# Altium integrated library Linear Technology Operational Amplifiers (LT2000-LT6000).IntLib: 1710 symbols (part 3 of 75)
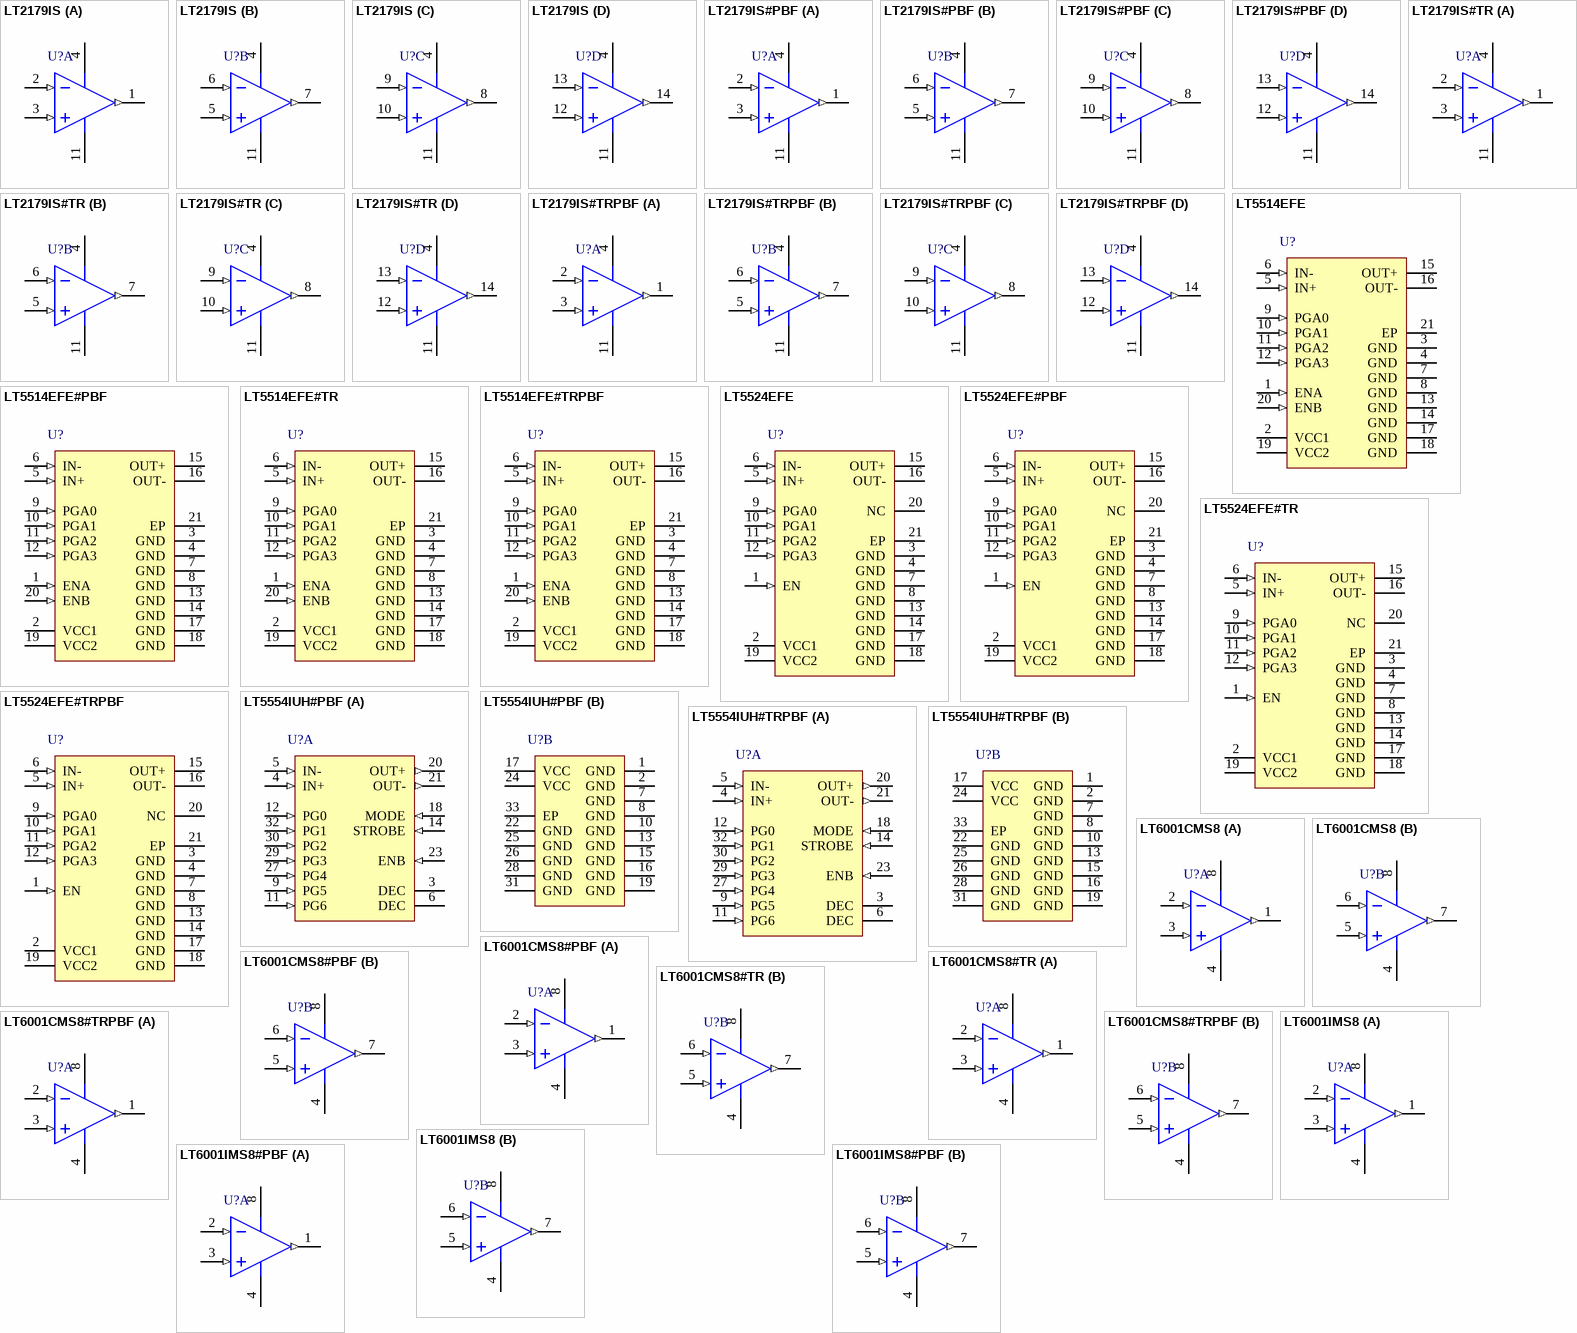
[diagram p82: symbols LT2179IS to LT6001IMS8#PBF]

## LT5514EFE#PBF
designator U?
Single Channel, Ultralow Distortion IF Amplifier / ADC Driver with Digitally Controlled Gain, 850 MHz Typical GBW, 4.75 to 5.25 V, 20-Pin SOP (FE-20), Extended, Pb-Free; Linear Technology Part Number: LT5514; Manufacturer: Linear Technology; PartNumber: LT5514EFE#PBF; Channels (#): 1; GBW (MHz) Typical: 850; Is (mA) Typical: 148; Vs Max (V): 5.25; Vs Min (V): 4.75; PackageVersion: Rev I; PackageReference: LT-FE-20-EPV-CB; PackageDescription: 20-Lead Plastic TSSOP, Body 6.5 x 4.4 mm, Pitch 0.65 mm; Supplier 1: Digi-Key; Supplier Part Number 1: LT5514EFE#PBF-ND; Supplier 2: Newark; Supplier Part Number 2: 57M8764; RoHS: Pb-Free; Type: DIFF; Mounting Technology: Surface Mount; ComponentLink1Description: Manufacturer URL; ComponentLink1URL: http://www.linear.com/; ComponentLink2Description: Datasheet; ComponentLink2URL: http://cds.linear.com/docs/en/datasheet/5514f.pdf; ComponentLink3Description: Package Specification; ComponentLink3URL: http://cds.linear.com/docs/en/packaging/05081663_I_FE20%28CB%29.pdf
footprint LT-FE-20-EPV-CB_N (SOP, 20-Leads, Body 6.5x4.4mm, Pitch 0.65mm, Thermal Pad 3.86x2.74mm, IPC Medium Density)
footprint LT-FE-20-EPV-CB_L (SOP, 20-Leads, Body 6.5x4.4mm, Pitch 0.65mm, Thermal Pad 3.86x2.74mm, IPC High Density)
footprint LT-FE-20-EPV-CB_M (SOP, 20-Leads, Body 6.5x4.4mm, Pitch 0.65mm, Thermal Pad 3.86x2.74mm, IPC Low Density)
pins: 1 ENA (in) "Enable Pin for Amplifier A. When the input voltage is higher than 3V, amplifier A is turned on. When the input voltage is less than or equal to 0.6V, amplifier A is turned off. This pin is internally pulled to ground if not (See Datasheet)", 2 VCC1 (power) "Power Supply. This pin is internally connected to VCC2 (Pin 19). Decoupling capacitors (1000pF and 0.1mF for example) may be required in some applications.", 3 GND (power) "Ground.", 4 GND (power) "Ground.", 5 IN+ (in) "Positive Signal Input Pin with Internal DC Bias.", 6 IN- (in) "Negative Signal Input Pin with Internal DC Bias.", 7 GND (power) "Ground.", 8 GND (power) "Ground.", 9 PGA0 (in) "Amplifier PGA Control Input Pin for the 1.5dB Attenuation Step (see Programmable Gain table). Input is high when input voltage is greater than 3V. Input is low when input voltage is less than or equal to 0.6V. This pin is (See Datasheet)", 10 PGA1 (in) "Amplifier PGA Control Input Pin for the 3dB Attenuation Step (see Programmable Gain table). Input is high when input voltage is greater than 3V. Input is low when input voltage is less than or equal to 0.6V. This pin is (See Datasheet)", 11 PGA2 (in) "Amplifier PGA Control Input Pin for the 6dB Attenuation Step (see Programmable Gain table).Input is high when input voltage is greater than 3V. Input is low when input voltage is less than or equal to 0.6V. This pin is (See Datasheet)", 12 PGA3 (in) "Amplifier PGA Control Input Pin for 12dB Attenuation Step (see Programmable Gain table). Input is high when input voltage is greater than 3V. Input is low when input voltage is less than or equal to 0.6V. This pin is (See Datasheet)", 13 GND (power) "Ground.", 14 GND (power) "Ground.", 15 OUT+ (hiz) "Positive Amplifier Output. A transformer with center tap tied to VCC or a choke inductor is recommended to source the DC quiescent current.", 16 OUT- (hiz) "Negative Amplifier Output. A transformer with center tap tied to VCC or a choke inductor is recommended to source the DC quiescent current.", 17 GND (power) "Ground.", 18 GND (power) "Ground.", 19 VCC2 (power) "Power Supply. This pin is internally connected to VCC1 (Pin 2).", 20 ENB (in) "Enable Pin for Amplifier B. When the input voltage is higher than 3V, amplifier B is turned on. When the input voltage is less than or equal to 0.6V, amplifier B is turned off. This pin is internally pulled to ground if not (See Datasheet)", 21 EP (power) "Ground. This pin must be soldered to the printed circuit board ground plane for good heat transfer."

## LT5514EFE#TR
designator U?
Single Channel, Ultralow Distortion IF Amplifier / ADC Driver with Digitally Controlled Gain, 850 MHz Typical GBW, 4.75 to 5.25 V, 20-Pin SOP (FE-20), Extended, Reel; Linear Technology Part Number: LT5514; Manufacturer: Linear Technology; PartNumber: LT5514EFE#TR; Channels (#): 1; GBW (MHz) Typical: 850; Is (mA) Typical: 148; Vs Max (V): 5.25; Vs Min (V): 4.75; PackageVersion: Rev I; PackageReference: LT-FE-20-EPV-CB; PackageDescription: 20-Lead Plastic TSSOP, Body 6.5 x 4.4 mm, Pitch 0.65 mm; Supplier 1: Digi-Key; Supplier Part Number 1: LT5514EFE#TR-ND; Packing: Reel; Type: DIFF; Mounting Technology: Surface Mount; ComponentLink1Description: Manufacturer URL; ComponentLink1URL: http://www.linear.com/; ComponentLink2Description: Datasheet; ComponentLink2URL: http://cds.linear.com/docs/en/datasheet/5514f.pdf; ComponentLink3Description: Package Specification; ComponentLink3URL: http://cds.linear.com/docs/en/packaging/05081663_I_FE20%28CB%29.pdf
footprint LT-FE-20-EPV-CB_N (SOP, 20-Leads, Body 6.5x4.4mm, Pitch 0.65mm, Thermal Pad 3.86x2.74mm, IPC Medium Density)
footprint LT-FE-20-EPV-CB_L (SOP, 20-Leads, Body 6.5x4.4mm, Pitch 0.65mm, Thermal Pad 3.86x2.74mm, IPC High Density)
footprint LT-FE-20-EPV-CB_M (SOP, 20-Leads, Body 6.5x4.4mm, Pitch 0.65mm, Thermal Pad 3.86x2.74mm, IPC Low Density)
pins: 1 ENA (in) "Enable Pin for Amplifier A. When the input voltage is higher than 3V, amplifier A is turned on. When the input voltage is less than or equal to 0.6V, amplifier A is turned off. This pin is internally pulled to ground if not (See Datasheet)", 2 VCC1 (power) "Power Supply. This pin is internally connected to VCC2 (Pin 19). Decoupling capacitors (1000pF and 0.1mF for example) may be required in some applications.", 3 GND (power) "Ground.", 4 GND (power) "Ground.", 5 IN+ (in) "Positive Signal Input Pin with Internal DC Bias.", 6 IN- (in) "Negative Signal Input Pin with Internal DC Bias.", 7 GND (power) "Ground.", 8 GND (power) "Ground.", 9 PGA0 (in) "Amplifier PGA Control Input Pin for the 1.5dB Attenuation Step (see Programmable Gain table). Input is high when input voltage is greater than 3V. Input is low when input voltage is less than or equal to 0.6V. This pin is (See Datasheet)", 10 PGA1 (in) "Amplifier PGA Control Input Pin for the 3dB Attenuation Step (see Programmable Gain table). Input is high when input voltage is greater than 3V. Input is low when input voltage is less than or equal to 0.6V. This pin is (See Datasheet)", 11 PGA2 (in) "Amplifier PGA Control Input Pin for the 6dB Attenuation Step (see Programmable Gain table).Input is high when input voltage is greater than 3V. Input is low when input voltage is less than or equal to 0.6V. This pin is (See Datasheet)", 12 PGA3 (in) "Amplifier PGA Control Input Pin for 12dB Attenuation Step (see Programmable Gain table). Input is high when input voltage is greater than 3V. Input is low when input voltage is less than or equal to 0.6V. This pin is (See Datasheet)", 13 GND (power) "Ground.", 14 GND (power) "Ground.", 15 OUT+ (hiz) "Positive Amplifier Output. A transformer with center tap tied to VCC or a choke inductor is recommended to source the DC quiescent current.", 16 OUT- (hiz) "Negative Amplifier Output. A transformer with center tap tied to VCC or a choke inductor is recommended to source the DC quiescent current.", 17 GND (power) "Ground.", 18 GND (power) "Ground.", 19 VCC2 (power) "Power Supply. This pin is internally connected to VCC1 (Pin 2).", 20 ENB (in) "Enable Pin for Amplifier B. When the input voltage is higher than 3V, amplifier B is turned on. When the input voltage is less than or equal to 0.6V, amplifier B is turned off. This pin is internally pulled to ground if not (See Datasheet)", 21 EP (power) "Ground. This pin must be soldered to the printed circuit board ground plane for good heat transfer."

## LT5514EFE#TRPBF
designator U?
Single Channel, Ultralow Distortion IF Amplifier / ADC Driver with Digitally Controlled Gain, 850 MHz Typical GBW, 4.75 to 5.25 V, 20-Pin SOP (FE-20), Extended, Pb-Free, Reel; Linear Technology Part Number: LT5514; Manufacturer: Linear Technology; PartNumber: LT5514EFE#TRPBF; Channels (#): 1; GBW (MHz) Typical: 850; Is (mA) Typical: 148; Vs Max (V): 5.25; Vs Min (V): 4.75; PackageVersion: Rev I; PackageReference: LT-FE-20-EPV-CB; PackageDescription: 20-Lead Plastic TSSOP, Body 6.5 x 4.4 mm, Pitch 0.65 mm; Supplier 1: Digi-Key; Supplier Part Number 1: LT5514EFE#TRPBF-ND; Packing: Reel; RoHS: Pb-Free; Type: DIFF; Mounting Technology: Surface Mount; ComponentLink1Description: Manufacturer URL; ComponentLink1URL: http://www.linear.com/; ComponentLink2Description: Datasheet; ComponentLink2URL: http://cds.linear.com/docs/en/datasheet/5514f.pdf; ComponentLink3Description: Package Specification; ComponentLink3URL: http://cds.linear.com/docs/en/packaging/05081663_I_FE20%28CB%29.pdf
footprint LT-FE-20-EPV-CB_N (SOP, 20-Leads, Body 6.5x4.4mm, Pitch 0.65mm, Thermal Pad 3.86x2.74mm, IPC Medium Density)
footprint LT-FE-20-EPV-CB_L (SOP, 20-Leads, Body 6.5x4.4mm, Pitch 0.65mm, Thermal Pad 3.86x2.74mm, IPC High Density)
footprint LT-FE-20-EPV-CB_M (SOP, 20-Leads, Body 6.5x4.4mm, Pitch 0.65mm, Thermal Pad 3.86x2.74mm, IPC Low Density)
pins: 1 ENA (in) "Enable Pin for Amplifier A. When the input voltage is higher than 3V, amplifier A is turned on. When the input voltage is less than or equal to 0.6V, amplifier A is turned off. This pin is internally pulled to ground if not (See Datasheet)", 2 VCC1 (power) "Power Supply. This pin is internally connected to VCC2 (Pin 19). Decoupling capacitors (1000pF and 0.1mF for example) may be required in some applications.", 3 GND (power) "Ground.", 4 GND (power) "Ground.", 5 IN+ (in) "Positive Signal Input Pin with Internal DC Bias.", 6 IN- (in) "Negative Signal Input Pin with Internal DC Bias.", 7 GND (power) "Ground.", 8 GND (power) "Ground.", 9 PGA0 (in) "Amplifier PGA Control Input Pin for the 1.5dB Attenuation Step (see Programmable Gain table). Input is high when input voltage is greater than 3V. Input is low when input voltage is less than or equal to 0.6V. This pin is (See Datasheet)", 10 PGA1 (in) "Amplifier PGA Control Input Pin for the 3dB Attenuation Step (see Programmable Gain table). Input is high when input voltage is greater than 3V. Input is low when input voltage is less than or equal to 0.6V. This pin is (See Datasheet)", 11 PGA2 (in) "Amplifier PGA Control Input Pin for the 6dB Attenuation Step (see Programmable Gain table).Input is high when input voltage is greater than 3V. Input is low when input voltage is less than or equal to 0.6V. This pin is (See Datasheet)", 12 PGA3 (in) "Amplifier PGA Control Input Pin for 12dB Attenuation Step (see Programmable Gain table). Input is high when input voltage is greater than 3V. Input is low when input voltage is less than or equal to 0.6V. This pin is (See Datasheet)", 13 GND (power) "Ground.", 14 GND (power) "Ground.", 15 OUT+ (hiz) "Positive Amplifier Output. A transformer with center tap tied to VCC or a choke inductor is recommended to source the DC quiescent current.", 16 OUT- (hiz) "Negative Amplifier Output. A transformer with center tap tied to VCC or a choke inductor is recommended to source the DC quiescent current.", 17 GND (power) "Ground.", 18 GND (power) "Ground.", 19 VCC2 (power) "Power Supply. This pin is internally connected to VCC1 (Pin 2).", 20 ENB (in) "Enable Pin for Amplifier B. When the input voltage is higher than 3V, amplifier B is turned on. When the input voltage is less than or equal to 0.6V, amplifier B is turned off. This pin is internally pulled to ground if not (See Datasheet)", 21 EP (power) "Ground. This pin must be soldered to the printed circuit board ground plane for good heat transfer."

## LT5524EFE
designator U?
Single Channel, Low Distortion IF Amplifier / ADC Driver with Digitally Controlled Gain, 540 MHz Typical GBW, 4.75 to 5.25 V, 20-Pin SOP (FE-20), Extended; Linear Technology Part Number: LT5524; Manufacturer: Linear Technology; PartNumber: LT5524EFE; Channels (#): 1; GBW (MHz) Typical: 540; Is (mA) Typical: 75; Vs Max (V): 5.25; Vs Min (V): 4.75; PackageVersion: Rev I; PackageReference: LT-FE-20-EPV-CB; PackageDescription: 20-Lead Plastic TSSOP, Body 6.5 x 4.4 mm, Pitch 0.65 mm; Type: DIFF; Mounting Technology: Surface Mount; ComponentLink1Description: Manufacturer URL; ComponentLink1URL: http://www.linear.com/; ComponentLink2Description: Datasheet; ComponentLink2URL: http://cds.linear.com/docs/en/datasheet/5524f.pdf; ComponentLink3Description: Package Specification; ComponentLink3URL: http://cds.linear.com/docs/en/packaging/05081663_I_FE20%28CB%29.pdf
footprint LT-FE-20-EPV-CB_N (SOP, 20-Leads, Body 6.5x4.4mm, Pitch 0.65mm, Thermal Pad 3.86x2.74mm, IPC Medium Density)
footprint LT-FE-20-EPV-CB_L (SOP, 20-Leads, Body 6.5x4.4mm, Pitch 0.65mm, Thermal Pad 3.86x2.74mm, IPC High Density)
footprint LT-FE-20-EPV-CB_M (SOP, 20-Leads, Body 6.5x4.4mm, Pitch 0.65mm, Thermal Pad 3.86x2.74mm, IPC Low Density)
pins: 1 EN (in) "Enable Pin for Amplifier. When the input voltage is higher than 3V, the amplifier is turned on. When the input voltage is less than or equal to 0.6V, the amplifier is turned off. This pin is internally pulled to ground if (See Datasheet)", 2 VCC1 (power) "Power Supply. This pin is internally connected to VCC2 (Pin 19). Decoupling capacitors (1000pF and 0.1µF for example) may be required in some applications.", 3 GND (power) "Ground.", 4 GND (power) "Ground.", 5 IN+ (in) "Positive Signal Input Pin with Internal DC Bias.", 6 IN- (in) "Negative Signal Input Pin with Internal DC Bias.", 7 GND (power) "Ground.", 8 GND (power) "Ground.", 9 PGA0 (in) "Amplifier PGA Control Input Pin for the 1.5dB Attenuation Step (see Programmable Gain table). Input is high when the input voltage is greater than 3V. Input is low when the input voltage is less than or equal to 0.6V. This (See Datasheet)", 10 PGA1 (in) "Amplifier PGA Control Input Pin for the 3dB Attenuation Step (see Programmable Gain table). Input is high when the input voltage is greater than 3V. Input is low when the input voltage is less than or equal to 0.6V. This pin (See Datasheet)", 11 PGA2 (in) "Amplifier PGA Control Input Pin for the 6dB Attenuation Step (see Programmable Gain table). Input is high when the input voltage is greater than 3V. Input is low when the input voltage is less than or equal to 0.6V. This pin (See Datasheet)", 12 PGA3 (in) "Amplifier PGA Control Input Pin for the 12dB Attenuation Step (see Programmable Gain table). Input is high when the input voltage is greater than 3V. Input is low when the input voltage is less than or equal to 0.6V. This (See Datasheet)", 13 GND (power) "Ground.", 14 GND (power) "Ground.", 15 OUT+ (hiz) "Positive Amplifier Output. A transformer with center tap tied to VCC or a choke inductor is recommended to source the DC quiescent current.", 16 OUT- (hiz) "Negative Amplifier Output. A transformer with center tap tied to VCC or a choke inductor is recommended to source the DC quiescent current.", 17 GND (power) "Ground.", 18 GND (power) "Ground.", 19 VCC2 (power) "Power Supply. This pin is internally connected to VCC1 (Pin 2).", 20 NC "Not Connected.", 21 EP (power) "Ground. This pin must be soldered to the printed circuit board ground plane for good heat transfer."

## LT5524EFE#PBF
designator U?
Single Channel, Low Distortion IF Amplifier / ADC Driver with Digitally Controlled Gain, 540 MHz Typical GBW, 4.75 to 5.25 V, 20-Pin SOP (FE-20), Extended, Pb-Free; Linear Technology Part Number: LT5524; Manufacturer: Linear Technology; PartNumber: LT5524EFE#PBF; Channels (#): 1; GBW (MHz) Typical: 540; Is (mA) Typical: 75; Vs Max (V): 5.25; Vs Min (V): 4.75; PackageVersion: Rev I; PackageReference: LT-FE-20-EPV-CB; PackageDescription: 20-Lead Plastic TSSOP, Body 6.5 x 4.4 mm, Pitch 0.65 mm; Supplier 1: Digi-Key; Supplier Part Number 1: LT5524EFE#PBF-ND; Supplier 2: Farnell; Supplier Part Number 2: 1273469; Supplier 3: Newark; Supplier Part Number 3: 57M8800; RoHS: Pb-Free; Type: DIFF; Mounting Technology: Surface Mount; ComponentLink1Description: Manufacturer URL; ComponentLink1URL: http://www.linear.com/; ComponentLink2Description: Datasheet; ComponentLink2URL: http://cds.linear.com/docs/en/datasheet/5524f.pdf; ComponentLink3Description: Package Specification; ComponentLink3URL: http://cds.linear.com/docs/en/packaging/05081663_I_FE20%28CB%29.pdf
footprint LT-FE-20-EPV-CB_N (SOP, 20-Leads, Body 6.5x4.4mm, Pitch 0.65mm, Thermal Pad 3.86x2.74mm, IPC Medium Density)
footprint LT-FE-20-EPV-CB_L (SOP, 20-Leads, Body 6.5x4.4mm, Pitch 0.65mm, Thermal Pad 3.86x2.74mm, IPC High Density)
footprint LT-FE-20-EPV-CB_M (SOP, 20-Leads, Body 6.5x4.4mm, Pitch 0.65mm, Thermal Pad 3.86x2.74mm, IPC Low Density)
pins: 1 EN (in) "Enable Pin for Amplifier. When the input voltage is higher than 3V, the amplifier is turned on. When the input voltage is less than or equal to 0.6V, the amplifier is turned off. This pin is internally pulled to ground if (See Datasheet)", 2 VCC1 (power) "Power Supply. This pin is internally connected to VCC2 (Pin 19). Decoupling capacitors (1000pF and 0.1µF for example) may be required in some applications.", 3 GND (power) "Ground.", 4 GND (power) "Ground.", 5 IN+ (in) "Positive Signal Input Pin with Internal DC Bias.", 6 IN- (in) "Negative Signal Input Pin with Internal DC Bias.", 7 GND (power) "Ground.", 8 GND (power) "Ground.", 9 PGA0 (in) "Amplifier PGA Control Input Pin for the 1.5dB Attenuation Step (see Programmable Gain table). Input is high when the input voltage is greater than 3V. Input is low when the input voltage is less than or equal to 0.6V. This (See Datasheet)", 10 PGA1 (in) "Amplifier PGA Control Input Pin for the 3dB Attenuation Step (see Programmable Gain table). Input is high when the input voltage is greater than 3V. Input is low when the input voltage is less than or equal to 0.6V. This pin (See Datasheet)", 11 PGA2 (in) "Amplifier PGA Control Input Pin for the 6dB Attenuation Step (see Programmable Gain table). Input is high when the input voltage is greater than 3V. Input is low when the input voltage is less than or equal to 0.6V. This pin (See Datasheet)", 12 PGA3 (in) "Amplifier PGA Control Input Pin for the 12dB Attenuation Step (see Programmable Gain table). Input is high when the input voltage is greater than 3V. Input is low when the input voltage is less than or equal to 0.6V. This (See Datasheet)", 13 GND (power) "Ground.", 14 GND (power) "Ground.", 15 OUT+ (hiz) "Positive Amplifier Output. A transformer with center tap tied to VCC or a choke inductor is recommended to source the DC quiescent current.", 16 OUT- (hiz) "Negative Amplifier Output. A transformer with center tap tied to VCC or a choke inductor is recommended to source the DC quiescent current.", 17 GND (power) "Ground.", 18 GND (power) "Ground.", 19 VCC2 (power) "Power Supply. This pin is internally connected to VCC1 (Pin 2).", 20 NC "Not Connected.", 21 EP (power) "Ground. This pin must be soldered to the printed circuit board ground plane for good heat transfer."

## LT5524EFE#TR
designator U?
Single Channel, Low Distortion IF Amplifier / ADC Driver with Digitally Controlled Gain, 540 MHz Typical GBW, 4.75 to 5.25 V, 20-Pin SOP (FE-20), Extended, Reel; Linear Technology Part Number: LT5524; Manufacturer: Linear Technology; PartNumber: LT5524EFE#TR; Channels (#): 1; GBW (MHz) Typical: 540; Is (mA) Typical: 75; Vs Max (V): 5.25; Vs Min (V): 4.75; PackageVersion: Rev I; PackageReference: LT-FE-20-EPV-CB; PackageDescription: 20-Lead Plastic TSSOP, Body 6.5 x 4.4 mm, Pitch 0.65 mm; Packing: Reel; Type: DIFF; Mounting Technology: Surface Mount; ComponentLink1Description: Manufacturer URL; ComponentLink1URL: http://www.linear.com/; ComponentLink2Description: Datasheet; ComponentLink2URL: http://cds.linear.com/docs/en/datasheet/5524f.pdf; ComponentLink3Description: Package Specification; ComponentLink3URL: http://cds.linear.com/docs/en/packaging/05081663_I_FE20%28CB%29.pdf
footprint LT-FE-20-EPV-CB_N (SOP, 20-Leads, Body 6.5x4.4mm, Pitch 0.65mm, Thermal Pad 3.86x2.74mm, IPC Medium Density)
footprint LT-FE-20-EPV-CB_L (SOP, 20-Leads, Body 6.5x4.4mm, Pitch 0.65mm, Thermal Pad 3.86x2.74mm, IPC High Density)
footprint LT-FE-20-EPV-CB_M (SOP, 20-Leads, Body 6.5x4.4mm, Pitch 0.65mm, Thermal Pad 3.86x2.74mm, IPC Low Density)
pins: 1 EN (in) "Enable Pin for Amplifier. When the input voltage is higher than 3V, the amplifier is turned on. When the input voltage is less than or equal to 0.6V, the amplifier is turned off. This pin is internally pulled to ground if (See Datasheet)", 2 VCC1 (power) "Power Supply. This pin is internally connected to VCC2 (Pin 19). Decoupling capacitors (1000pF and 0.1µF for example) may be required in some applications.", 3 GND (power) "Ground.", 4 GND (power) "Ground.", 5 IN+ (in) "Positive Signal Input Pin with Internal DC Bias.", 6 IN- (in) "Negative Signal Input Pin with Internal DC Bias.", 7 GND (power) "Ground.", 8 GND (power) "Ground.", 9 PGA0 (in) "Amplifier PGA Control Input Pin for the 1.5dB Attenuation Step (see Programmable Gain table). Input is high when the input voltage is greater than 3V. Input is low when the input voltage is less than or equal to 0.6V. This (See Datasheet)", 10 PGA1 (in) "Amplifier PGA Control Input Pin for the 3dB Attenuation Step (see Programmable Gain table). Input is high when the input voltage is greater than 3V. Input is low when the input voltage is less than or equal to 0.6V. This pin (See Datasheet)", 11 PGA2 (in) "Amplifier PGA Control Input Pin for the 6dB Attenuation Step (see Programmable Gain table). Input is high when the input voltage is greater than 3V. Input is low when the input voltage is less than or equal to 0.6V. This pin (See Datasheet)", 12 PGA3 (in) "Amplifier PGA Control Input Pin for the 12dB Attenuation Step (see Programmable Gain table). Input is high when the input voltage is greater than 3V. Input is low when the input voltage is less than or equal to 0.6V. This (See Datasheet)", 13 GND (power) "Ground.", 14 GND (power) "Ground.", 15 OUT+ (hiz) "Positive Amplifier Output. A transformer with center tap tied to VCC or a choke inductor is recommended to source the DC quiescent current.", 16 OUT- (hiz) "Negative Amplifier Output. A transformer with center tap tied to VCC or a choke inductor is recommended to source the DC quiescent current.", 17 GND (power) "Ground.", 18 GND (power) "Ground.", 19 VCC2 (power) "Power Supply. This pin is internally connected to VCC1 (Pin 2).", 20 NC "Not Connected.", 21 EP (power) "Ground. This pin must be soldered to the printed circuit board ground plane for good heat transfer."

## LT5524EFE#TRPBF
designator U?
Single Channel, Low Distortion IF Amplifier / ADC Driver with Digitally Controlled Gain, 540 MHz Typical GBW, 4.75 to 5.25 V, 20-Pin SOP (FE-20), Extended, Pb-Free, Reel; Linear Technology Part Number: LT5524; Manufacturer: Linear Technology; PartNumber: LT5524EFE#TRPBF; Channels (#): 1; GBW (MHz) Typical: 540; Is (mA) Typical: 75; Vs Max (V): 5.25; Vs Min (V): 4.75; PackageVersion: Rev I; PackageReference: LT-FE-20-EPV-CB; PackageDescription: 20-Lead Plastic TSSOP, Body 6.5 x 4.4 mm, Pitch 0.65 mm; Supplier 1: Digi-Key; Supplier Part Number 1: LT5524EFE#TRPBF-ND; Supplier 2: Newark; Supplier Part Number 2: 57M8802; Packing: Reel; RoHS: Pb-Free; Type: DIFF; Mounting Technology: Surface Mount; ComponentLink1Description: Manufacturer URL; ComponentLink1URL: http://www.linear.com/; ComponentLink2Description: Datasheet; ComponentLink2URL: http://cds.linear.com/docs/en/datasheet/5524f.pdf; ComponentLink3Description: Package Specification; ComponentLink3URL: http://cds.linear.com/docs/en/packaging/05081663_I_FE20%28CB%29.pdf
footprint LT-FE-20-EPV-CB_N (SOP, 20-Leads, Body 6.5x4.4mm, Pitch 0.65mm, Thermal Pad 3.86x2.74mm, IPC Medium Density)
footprint LT-FE-20-EPV-CB_L (SOP, 20-Leads, Body 6.5x4.4mm, Pitch 0.65mm, Thermal Pad 3.86x2.74mm, IPC High Density)
footprint LT-FE-20-EPV-CB_M (SOP, 20-Leads, Body 6.5x4.4mm, Pitch 0.65mm, Thermal Pad 3.86x2.74mm, IPC Low Density)
pins: 1 EN (in) "Enable Pin for Amplifier. When the input voltage is higher than 3V, the amplifier is turned on. When the input voltage is less than or equal to 0.6V, the amplifier is turned off. This pin is internally pulled to ground if (See Datasheet)", 2 VCC1 (power) "Power Supply. This pin is internally connected to VCC2 (Pin 19). Decoupling capacitors (1000pF and 0.1µF for example) may be required in some applications.", 3 GND (power) "Ground.", 4 GND (power) "Ground.", 5 IN+ (in) "Positive Signal Input Pin with Internal DC Bias.", 6 IN- (in) "Negative Signal Input Pin with Internal DC Bias.", 7 GND (power) "Ground.", 8 GND (power) "Ground.", 9 PGA0 (in) "Amplifier PGA Control Input Pin for the 1.5dB Attenuation Step (see Programmable Gain table). Input is high when the input voltage is greater than 3V. Input is low when the input voltage is less than or equal to 0.6V. This (See Datasheet)", 10 PGA1 (in) "Amplifier PGA Control Input Pin for the 3dB Attenuation Step (see Programmable Gain table). Input is high when the input voltage is greater than 3V. Input is low when the input voltage is less than or equal to 0.6V. This pin (See Datasheet)", 11 PGA2 (in) "Amplifier PGA Control Input Pin for the 6dB Attenuation Step (see Programmable Gain table). Input is high when the input voltage is greater than 3V. Input is low when the input voltage is less than or equal to 0.6V. This pin (See Datasheet)", 12 PGA3 (in) "Amplifier PGA Control Input Pin for the 12dB Attenuation Step (see Programmable Gain table). Input is high when the input voltage is greater than 3V. Input is low when the input voltage is less than or equal to 0.6V. This (See Datasheet)", 13 GND (power) "Ground.", 14 GND (power) "Ground.", 15 OUT+ (hiz) "Positive Amplifier Output. A transformer with center tap tied to VCC or a choke inductor is recommended to source the DC quiescent current.", 16 OUT- (hiz) "Negative Amplifier Output. A transformer with center tap tied to VCC or a choke inductor is recommended to source the DC quiescent current.", 17 GND (power) "Ground.", 18 GND (power) "Ground.", 19 VCC2 (power) "Power Supply. This pin is internally connected to VCC1 (Pin 2).", 20 NC "Not Connected.", 21 EP (power) "Ground. This pin must be soldered to the printed circuit board ground plane for good heat transfer."

## LT5554IUH#PBF
designator U?
Single Channel, Broadband Ultra Low Distortion 7-Bit Digitally Controlled Variable Gain Amplifier, 1000 MHz Typical GBW, 4.75 to 5.25 V, 32-Pin QFN (UH-32), Industrial, Pb-Free; Linear Technology Part Number: LT5554; Manufacturer: Linear Technology; PartNumber: LT5554IUH#PBF; Channels (#): 1; GBW (MHz) Typical: 1000; Is (mA) Typical: 200; Vs Max (V): 5.25; Vs Min (V): 4.75; PackageVersion: Rev D; PackageReference: LT-UH-32; PackageDescription: 32-Lead Plastic QFN, Body 5 x 5 mm, Pitch 0.5 mm; Supplier 1: Digi-Key; Supplier Part Number 1: LT5554IUH#PBF-ND; Supplier 2: Newark; Supplier Part Number 2: 02P7664; RoHS: Pb-Free; Type: DIFF; Mounting Technology: Surface Mount; Code_JEDEC: MO-220; ComponentLink1Description: Manufacturer URL; ComponentLink1URL: http://www.linear.com/; ComponentLink2Description: Datasheet; ComponentLink2URL: http://cds.linear.com/docs/en/datasheet/5554f.pdf; ComponentLink3Description: Package Specification; ComponentLink3URL: http://cds.linear.com/docs/en/packaging/QFN_32_05-08-1693.pdf
footprint LT-UH-32_N (QFN, 32-Leads, Body 5x5mm, Pitch 0.50mm, Thermal Pad 3.45X3.45mm, IPC Medium Density)
footprint LT-UH-32_L (QFN, 32-Leads, Body 5x5mm, Pitch 0.50mm, Thermal Pad 3.45X3.45mm, IPC High Density)
footprint LT-UH-32_M (QFN, 32-Leads, Body 5x5mm, Pitch 0.50mm, Thermal Pad 3.45X3.45mm, IPC Low Density)
part A pins: 3 DEC "Decoupling Pin for the Internal DC Bias Voltage for the Differential Inputs, IN+ and IN-. It is also connected to the ‘virtual ground’ of the input resistive attenuator. Capacitive de-coupling to ground is recommended in (See Datasheet)", 4 IN+ (in) "Positive Signal Input Pin with Internal DC Bias to 2V.", 5 IN- (in) "Negative Signal Input Pin with Internal DC Bias to 2V.", 6 DEC "Decoupling Pin for the Internal DC Bias Voltage for the Differential Inputs, IN+ and IN-. It is also connected to the ‘virtual ground’ of the input resistive attenuator. Capacitive de-coupling to ground is recommended in (See Datasheet)", 9 PG5 (in) "4dB Step Amplifier Programmable Gain Control Input Pin. Input levels are controlled by MODE pin.", 11 PG6 (in) "8dB Step Amplifier Programmable Gain Control Input Pin. Input levels are controlled by the MODE pin.", 12 PG0 (in) "0.125dB Step Amplifier Programmable Gain Control Input Pin. Input levels are controlled by MODE pin.", 14 STROBE (in) "Strobe Pin for the Programmable Gain Control Inputs (PGx). With STROBE in Low-state, the Amplifi er Gain is not changed by PGx state changes (latch mode). With STROBE in High-state, the Amplifi er Gain is asynchronously set (See Datasheet)", 18 MODE (in) "PGx and STROBE Functionality and Level Control Pin. When MODE is higher than VCC - 0.4V, the PGx and STROBE are DC-coupled. When the MODE pin  is lower than 0.6V, the PGx and STROBE are AC-coupled. When the MODE pin is left (See Datasheet)", 20 OUT+ (out) "Positive Amplifier Output Pin. A transformer with a center tap tied to VCC or a choke inductor is recommended to conduct the DC quiescent current.", 21 OUT- (out) "Negative Amplifier Output Pin. A transformer with a center tap tied to VCC or a choke inductor is recommended to conduct the DC quiescent current.", 23 ENB (in) "Enable Pin for Amplifier. When the ENB input voltage is higher than 3V, the amplifi er is turned on. When the ENB input voltage is less than or equal to 0.6V, the amplifi er is turned off.", 27 PG4 (in) "2dB Step Amplifier Programmable Gain Control Input Pin. Input levels are controlled by MODE pin.", 29 PG3 (in) "1dB Step Amplifier Programmable Gain Control Input Pin. Input levels are controlled by MODE pin.", 30 PG2 (in) "0.5dB Step Amplifier Programmable Gain Control Input Pin. Input levels are controlled by MODE pin.", 32 PG1 (in) "0.25dB Step Amplifier Programmable Gain Control Input Pin. Input levels are controlled by MODE pin."
part B pins: 1 GND (power) "Ground Pin.", 2 GND (power) "Ground Pin.", 7 GND (power) "Ground Pin.", 8 GND (power) "Ground Pin.", 10 GND (power) "Ground Pin.", 13 GND (power) "Ground Pin.", 15 GND (power) "Ground Pin.", 16 GND (power) "Ground Pin.", 17 VCC (power) "Power Supply Pins. These pins are internally connected together.", 19 GND (power) "Ground Pin.", 22 GND (power) "Ground Pin.", 24 VCC (power) "Power Supply Pins. These pins are internally connected together.", 25 GND (power) "Ground Pin.", 26 GND (power) "Ground Pin.", 28 GND (power) "Ground Pin.", 31 GND (power) "Ground Pin.", 33 EP (power) "Ground. This pin must be soldered to the printed circuit board ground plane for good heat dissipation."

## LT5554IUH#TRPBF
designator U?
Single Channel, Broadband Ultra Low Distortion 7-Bit Digitally Controlled Variable Gain Amplifier, 1000 MHz Typical GBW, 4.75 to 5.25 V, 32-Pin QFN (UH-32), Industrial, Pb-Free, Reel; Linear Technology Part Number: LT5554; Manufacturer: Linear Technology; PartNumber: LT5554IUH#TRPBF; Channels (#): 1; GBW (MHz) Typical: 1000; Is (mA) Typical: 200; Vs Max (V): 5.25; Vs Min (V): 4.75; PackageVersion: Rev D; PackageReference: LT-UH-32; PackageDescription: 32-Lead Plastic QFN, Body 5 x 5 mm, Pitch 0.5 mm; Supplier 1: Digi-Key; Supplier Part Number 1: LT5554IUH#TRPBF-ND; Packing: Reel; RoHS: Pb-Free; Type: DIFF; Mounting Technology: Surface Mount; Code_JEDEC: MO-220; ComponentLink1Description: Manufacturer URL; ComponentLink1URL: http://www.linear.com/; ComponentLink2Description: Datasheet; ComponentLink2URL: http://cds.linear.com/docs/en/datasheet/5554f.pdf; ComponentLink3Description: Package Specification; ComponentLink3URL: http://cds.linear.com/docs/en/packaging/QFN_32_05-08-1693.pdf
footprint LT-UH-32_N (QFN, 32-Leads, Body 5x5mm, Pitch 0.50mm, Thermal Pad 3.45X3.45mm, IPC Medium Density)
footprint LT-UH-32_L (QFN, 32-Leads, Body 5x5mm, Pitch 0.50mm, Thermal Pad 3.45X3.45mm, IPC High Density)
footprint LT-UH-32_M (QFN, 32-Leads, Body 5x5mm, Pitch 0.50mm, Thermal Pad 3.45X3.45mm, IPC Low Density)
part A pins: 3 DEC "Decoupling Pin for the Internal DC Bias Voltage for the Differential Inputs, IN+ and IN-. It is also connected to the ‘virtual ground’ of the input resistive attenuator. Capacitive de-coupling to ground is recommended in (See Datasheet)", 4 IN+ (in) "Positive Signal Input Pin with Internal DC Bias to 2V.", 5 IN- (in) "Negative Signal Input Pin with Internal DC Bias to 2V.", 6 DEC "Decoupling Pin for the Internal DC Bias Voltage for the Differential Inputs, IN+ and IN-. It is also connected to the ‘virtual ground’ of the input resistive attenuator. Capacitive de-coupling to ground is recommended in (See Datasheet)", 9 PG5 (in) "4dB Step Amplifier Programmable Gain Control Input Pin. Input levels are controlled by MODE pin.", 11 PG6 (in) "8dB Step Amplifier Programmable Gain Control Input Pin. Input levels are controlled by the MODE pin.", 12 PG0 (in) "0.125dB Step Amplifier Programmable Gain Control Input Pin. Input levels are controlled by MODE pin.", 14 STROBE (in) "Strobe Pin for the Programmable Gain Control Inputs (PGx). With STROBE in Low-state, the Amplifi er Gain is not changed by PGx state changes (latch mode). With STROBE in High-state, the Amplifi er Gain is asynchronously set (See Datasheet)", 18 MODE (in) "PGx and STROBE Functionality and Level Control Pin. When MODE is higher than VCC - 0.4V, the PGx and STROBE are DC-coupled. When the MODE pin  is lower than 0.6V, the PGx and STROBE are AC-coupled. When the MODE pin is left (See Datasheet)", 20 OUT+ (out) "Positive Amplifier Output Pin. A transformer with a center tap tied to VCC or a choke inductor is recommended to conduct the DC quiescent current.", 21 OUT- (out) "Negative Amplifier Output Pin. A transformer with a center tap tied to VCC or a choke inductor is recommended to conduct the DC quiescent current.", 23 ENB (in) "Enable Pin for Amplifier. When the ENB input voltage is higher than 3V, the amplifi er is turned on. When the ENB input voltage is less than or equal to 0.6V, the amplifi er is turned off.", 27 PG4 (in) "2dB Step Amplifier Programmable Gain Control Input Pin. Input levels are controlled by MODE pin.", 29 PG3 (in) "1dB Step Amplifier Programmable Gain Control Input Pin. Input levels are controlled by MODE pin.", 30 PG2 (in) "0.5dB Step Amplifier Programmable Gain Control Input Pin. Input levels are controlled by MODE pin.", 32 PG1 (in) "0.25dB Step Amplifier Programmable Gain Control Input Pin. Input levels are controlled by MODE pin."
part B pins: 1 GND (power) "Ground Pin.", 2 GND (power) "Ground Pin.", 7 GND (power) "Ground Pin.", 8 GND (power) "Ground Pin.", 10 GND (power) "Ground Pin.", 13 GND (power) "Ground Pin.", 15 GND (power) "Ground Pin.", 16 GND (power) "Ground Pin.", 17 VCC (power) "Power Supply Pins. These pins are internally connected together.", 19 GND (power) "Ground Pin.", 22 GND (power) "Ground Pin.", 24 VCC (power) "Power Supply Pins. These pins are internally connected together.", 25 GND (power) "Ground Pin.", 26 GND (power) "Ground Pin.", 28 GND (power) "Ground Pin.", 31 GND (power) "Ground Pin.", 33 EP (power) "Ground. This pin must be soldered to the printed circuit board ground plane for good heat dissipation."

## LT6001CMS8
designator U?
Dual Channel, Precision Operational Amplifier, RRIO, 0.05 MHz Typical GBW, 0.015 V/us Typical SR, 1.8 to 18 V, 8-Pin SOP (MS8-8), Commercial; Linear Technology Part Number: LT6001; Manufacturer: Linear Technology; PartNumber: LT6001CMS8; Channels (#): 2; GBW (MHz) Typical: 0.05; Is (mA) Typical: 0.013; SR (V/us) Typical: 0.015; Vos (mV) Guaranteed: 0.6; Vos (mV) Typical: 0.2; Vs Max (V): 18; Vs Min (V): 1.8; DatasheetVersion: Rev. A; PackageVersion: Rev G; PackageReference: LT-MS8-8; PackageDescription: 8-Lead Plastic Small Outline, Body 3.9 x 4.9 mm, Pitch 1.27 mm; Supplier 1: Newark; Supplier Part Number 1: 57M8860; Type: VFB; Mounting Technology: Surface Mount; ComponentLink1Description: Manufacturer URL; ComponentLink1URL: http://www.linear.com/; ComponentLink2Description: Datasheet; ComponentLink2URL: http://cds.linear.com/docs/en/datasheet/600012fa.pdf; ComponentLink3Description: Package Specification; ComponentLink3URL: http://cds.linear.com/docs/en/packaging/05081610_G_SO8.pdf
footprint LT-MS8-8_N (SOP, 8-Leads, Body 3x3mm, Pitch 0.65mm, IPC Medium Density)
footprint LT-MS8-8_L (SOP, 8-Leads, Body 3x3mm, Pitch 0.65mm, IPC High Density)
footprint LT-MS8-8_M (SOP, 8-Leads, Body 3x3mm, Pitch 0.65mm, IPC Low Density)
pins on every part: 4 V- (power), 8 V+ (power)
part A pins: 1 OUT A (out), 2 IN- A (in), 3 IN+ A (in)
part B pins: 5 IN+ B (in), 6 IN- B (in), 7 OUT B (out)

## LT6001CMS8#PBF
designator U?
Dual Channel, Precision Operational Amplifier, RRIO, 0.05 MHz Typical GBW, 0.015 V/us Typical SR, 1.8 to 18 V, 8-Pin SOP (MS8-8), Commercial, Pb-Free; Linear Technology Part Number: LT6001; Manufacturer: Linear Technology; PartNumber: LT6001CMS8#PBF; Channels (#): 2; GBW (MHz) Typical: 0.05; Is (mA) Typical: 0.013; SR (V/us) Typical: 0.015; Vos (mV) Guaranteed: 0.6; Vos (mV) Typical: 0.2; Vs Max (V): 18; Vs Min (V): 1.8; DatasheetVersion: Rev. A; PackageVersion: Rev G; PackageReference: LT-MS8-8; PackageDescription: 8-Lead Plastic Small Outline, Body 3.9 x 4.9 mm, Pitch 1.27 mm; Supplier 1: Digi-Key; Supplier Part Number 1: LT6001CMS8#PBF-ND; Supplier 2: Newark; Supplier Part Number 2: 57M8861; RoHS: Pb-Free; Type: VFB; Mounting Technology: Surface Mount; ComponentLink1Description: Manufacturer URL; ComponentLink1URL: http://www.linear.com/; ComponentLink2Description: Datasheet; ComponentLink2URL: http://cds.linear.com/docs/en/datasheet/600012fa.pdf; ComponentLink3Description: Package Specification; ComponentLink3URL: http://cds.linear.com/docs/en/packaging/05081610_G_SO8.pdf
footprint LT-MS8-8_N (SOP, 8-Leads, Body 3x3mm, Pitch 0.65mm, IPC Medium Density)
footprint LT-MS8-8_L (SOP, 8-Leads, Body 3x3mm, Pitch 0.65mm, IPC High Density)
footprint LT-MS8-8_M (SOP, 8-Leads, Body 3x3mm, Pitch 0.65mm, IPC Low Density)
pins on every part: 4 V- (power), 8 V+ (power)
part A pins: 1 OUT A (out), 2 IN- A (in), 3 IN+ A (in)
part B pins: 5 IN+ B (in), 6 IN- B (in), 7 OUT B (out)

## LT6001CMS8#TR
designator U?
Dual Channel, Precision Operational Amplifier, RRIO, 0.05 MHz Typical GBW, 0.015 V/us Typical SR, 1.8 to 18 V, 8-Pin SOP (MS8-8), Commercial, Reel; Linear Technology Part Number: LT6001; Manufacturer: Linear Technology; PartNumber: LT6001CMS8#TR; Channels (#): 2; GBW (MHz) Typical: 0.05; Is (mA) Typical: 0.013; SR (V/us) Typical: 0.015; Vos (mV) Guaranteed: 0.6; Vos (mV) Typical: 0.2; Vs Max (V): 18; Vs Min (V): 1.8; DatasheetVersion: Rev. A; PackageVersion: Rev G; PackageReference: LT-MS8-8; PackageDescription: 8-Lead Plastic Small Outline, Body 3.9 x 4.9 mm, Pitch 1.27 mm; Packing: Reel; Type: VFB; Mounting Technology: Surface Mount; ComponentLink1Description: Manufacturer URL; ComponentLink1URL: http://www.linear.com/; ComponentLink2Description: Datasheet; ComponentLink2URL: http://cds.linear.com/docs/en/datasheet/600012fa.pdf; ComponentLink3Description: Package Specification; ComponentLink3URL: http://cds.linear.com/docs/en/packaging/05081610_G_SO8.pdf
footprint LT-MS8-8_N (SOP, 8-Leads, Body 3x3mm, Pitch 0.65mm, IPC Medium Density)
footprint LT-MS8-8_L (SOP, 8-Leads, Body 3x3mm, Pitch 0.65mm, IPC High Density)
footprint LT-MS8-8_M (SOP, 8-Leads, Body 3x3mm, Pitch 0.65mm, IPC Low Density)
pins on every part: 4 V- (power), 8 V+ (power)
part A pins: 1 OUT A (out), 2 IN- A (in), 3 IN+ A (in)
part B pins: 5 IN+ B (in), 6 IN- B (in), 7 OUT B (out)

## LT6001CMS8#TRPBF
designator U?
Dual Channel, Precision Operational Amplifier, RRIO, 0.05 MHz Typical GBW, 0.015 V/us Typical SR, 1.8 to 18 V, 8-Pin SOP (MS8-8), Commercial, Pb-Free, Reel; Linear Technology Part Number: LT6001; Manufacturer: Linear Technology; PartNumber: LT6001CMS8#TRPBF; Channels (#): 2; GBW (MHz) Typical: 0.05; Is (mA) Typical: 0.013; SR (V/us) Typical: 0.015; Vos (mV) Guaranteed: 0.6; Vos (mV) Typical: 0.2; Vs Max (V): 18; Vs Min (V): 1.8; DatasheetVersion: Rev. A; PackageVersion: Rev G; PackageReference: LT-MS8-8; PackageDescription: 8-Lead Plastic Small Outline, Body 3.9 x 4.9 mm, Pitch 1.27 mm; Supplier 1: Digi-Key; Supplier Part Number 1: LT6001CMS8#TRPBF-ND; Supplier 2: Newark; Supplier Part Number 2: 57M8863; Packing: Reel; RoHS: Pb-Free; Type: VFB; Mounting Technology: Surface Mount; ComponentLink1Description: Manufacturer URL; ComponentLink1URL: http://www.linear.com/; ComponentLink2Description: Datasheet; ComponentLink2URL: http://cds.linear.com/docs/en/datasheet/600012fa.pdf; ComponentLink3Description: Package Specification; ComponentLink3URL: http://cds.linear.com/docs/en/packaging/05081610_G_SO8.pdf
footprint LT-MS8-8_N (SOP, 8-Leads, Body 3x3mm, Pitch 0.65mm, IPC Medium Density)
footprint LT-MS8-8_L (SOP, 8-Leads, Body 3x3mm, Pitch 0.65mm, IPC High Density)
footprint LT-MS8-8_M (SOP, 8-Leads, Body 3x3mm, Pitch 0.65mm, IPC Low Density)
pins on every part: 4 V- (power), 8 V+ (power)
part A pins: 1 OUT A (out), 2 IN- A (in), 3 IN+ A (in)
part B pins: 5 IN+ B (in), 6 IN- B (in), 7 OUT B (out)

## LT6001IMS8
designator U?
Dual Channel, Precision Operational Amplifier, RRIO, 0.05 MHz Typical GBW, 0.015 V/us Typical SR, 1.8 to 18 V, 8-Pin SOP (MS8-8), Industrial; Linear Technology Part Number: LT6001; Manufacturer: Linear Technology; PartNumber: LT6001IMS8; Channels (#): 2; GBW (MHz) Typical: 0.05; Is (mA) Typical: 0.013; SR (V/us) Typical: 0.015; Vos (mV) Guaranteed: 0.6; Vos (mV) Typical: 0.2; Vs Max (V): 18; Vs Min (V): 1.8; DatasheetVersion: Rev. A; PackageVersion: Rev G; PackageReference: LT-MS8-8; PackageDescription: 8-Lead Plastic Small Outline, Body 3.9 x 4.9 mm, Pitch 1.27 mm; Type: VFB; Mounting Technology: Surface Mount; ComponentLink1Description: Manufacturer URL; ComponentLink1URL: http://www.linear.com/; ComponentLink2Description: Datasheet; ComponentLink2URL: http://cds.linear.com/docs/en/datasheet/600012fa.pdf; ComponentLink3Description: Package Specification; ComponentLink3URL: http://cds.linear.com/docs/en/packaging/05081610_G_SO8.pdf
footprint LT-MS8-8_N (SOP, 8-Leads, Body 3x3mm, Pitch 0.65mm, IPC Medium Density)
footprint LT-MS8-8_L (SOP, 8-Leads, Body 3x3mm, Pitch 0.65mm, IPC High Density)
footprint LT-MS8-8_M (SOP, 8-Leads, Body 3x3mm, Pitch 0.65mm, IPC Low Density)
pins on every part: 4 V- (power), 8 V+ (power)
part A pins: 1 OUT A (out), 2 IN- A (in), 3 IN+ A (in)
part B pins: 5 IN+ B (in), 6 IN- B (in), 7 OUT B (out)

## LT6001IMS8#PBF
designator U?
Dual Channel, Precision Operational Amplifier, RRIO, 0.05 MHz Typical GBW, 0.015 V/us Typical SR, 1.8 to 18 V, 8-Pin SOP (MS8-8), Industrial, Pb-Free; Linear Technology Part Number: LT6001; Manufacturer: Linear Technology; PartNumber: LT6001IMS8#PBF; Channels (#): 2; GBW (MHz) Typical: 0.05; Is (mA) Typical: 0.013; SR (V/us) Typical: 0.015; Vos (mV) Guaranteed: 0.6; Vos (mV) Typical: 0.2; Vs Max (V): 18; Vs Min (V): 1.8; DatasheetVersion: Rev. A; PackageVersion: Rev G; PackageReference: LT-MS8-8; PackageDescription: 8-Lead Plastic Small Outline, Body 3.9 x 4.9 mm, Pitch 1.27 mm; Supplier 1: Digi-Key; Supplier Part Number 1: LT6001IMS8#PBF-ND; Supplier 2: Farnell; Supplier Part Number 2: 1432094; Supplier 3: Newark; Supplier Part Number 3: 57M8869; RoHS: Pb-Free; Type: VFB; Mounting Technology: Surface Mount; ComponentLink1Description: Manufacturer URL; ComponentLink1URL: http://www.linear.com/; ComponentLink2Description: Datasheet; ComponentLink2URL: http://cds.linear.com/docs/en/datasheet/600012fa.pdf; ComponentLink3Description: Package Specification; ComponentLink3URL: http://cds.linear.com/docs/en/packaging/05081610_G_SO8.pdf
footprint LT-MS8-8_N (SOP, 8-Leads, Body 3x3mm, Pitch 0.65mm, IPC Medium Density)
footprint LT-MS8-8_L (SOP, 8-Leads, Body 3x3mm, Pitch 0.65mm, IPC High Density)
footprint LT-MS8-8_M (SOP, 8-Leads, Body 3x3mm, Pitch 0.65mm, IPC Low Density)
pins on every part: 4 V- (power), 8 V+ (power)
part A pins: 1 OUT A (out), 2 IN- A (in), 3 IN+ A (in)
part B pins: 5 IN+ B (in), 6 IN- B (in), 7 OUT B (out)

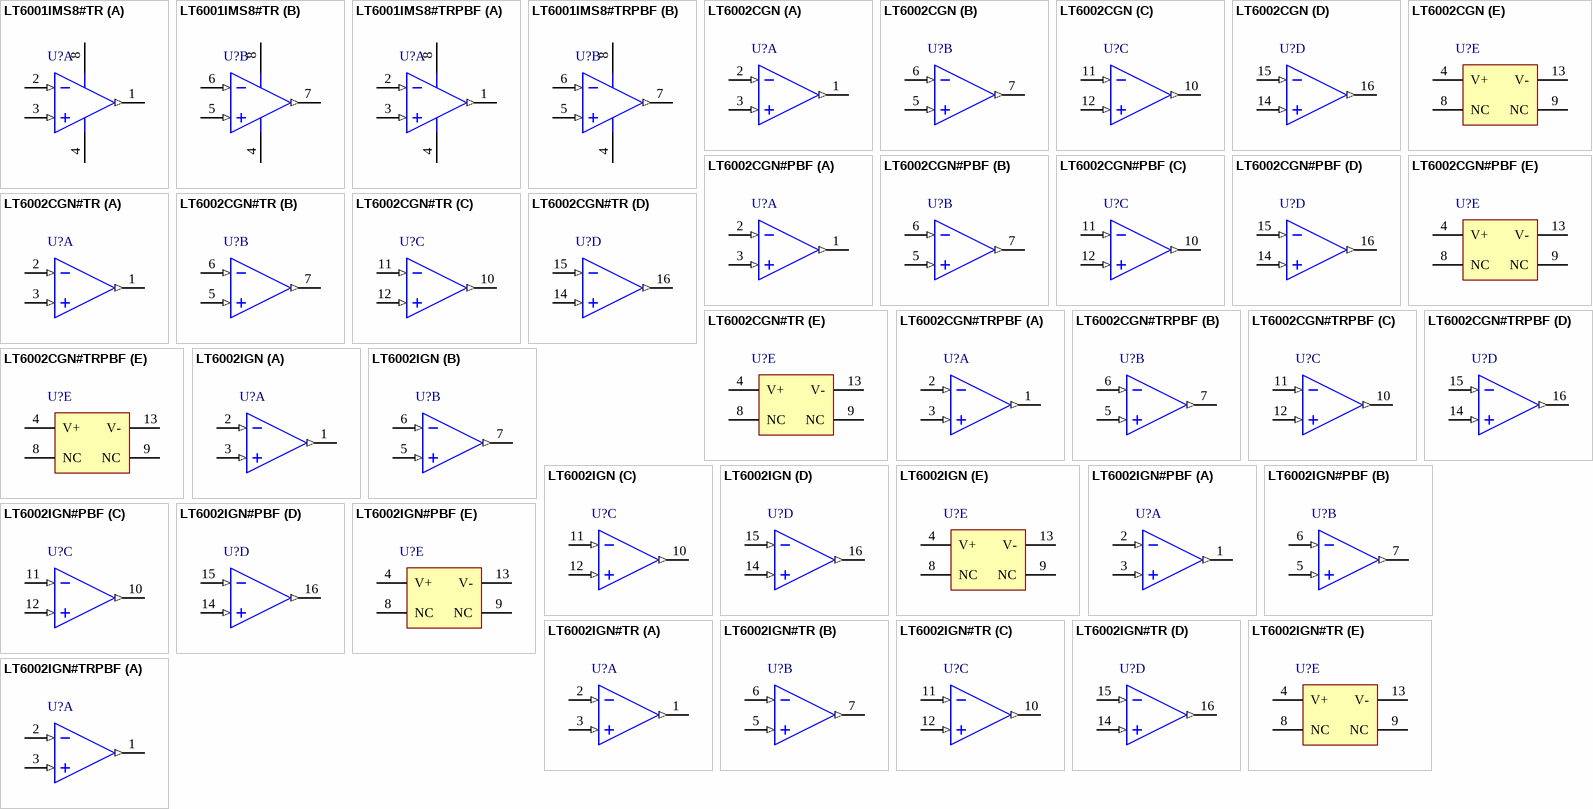
[diagram p5: symbols LT6001IMS8#TR to LT6002IGN#TRPBF]

## LT6001IMS8#TR
designator U?
Dual Channel, Precision Operational Amplifier, RRIO, 0.05 MHz Typical GBW, 0.015 V/us Typical SR, 1.8 to 18 V, 8-Pin SOP (MS8-8), Industrial, Reel; Linear Technology Part Number: LT6001; Manufacturer: Linear Technology; PartNumber: LT6001IMS8#TR; Channels (#): 2; GBW (MHz) Typical: 0.05; Is (mA) Typical: 0.013; SR (V/us) Typical: 0.015; Vos (mV) Guaranteed: 0.6; Vos (mV) Typical: 0.2; Vs Max (V): 18; Vs Min (V): 1.8; DatasheetVersion: Rev. A; PackageVersion: Rev G; PackageReference: LT-MS8-8; PackageDescription: 8-Lead Plastic Small Outline, Body 3.9 x 4.9 mm, Pitch 1.27 mm; Packing: Reel; Type: VFB; Mounting Technology: Surface Mount; ComponentLink1Description: Manufacturer URL; ComponentLink1URL: http://www.linear.com/; ComponentLink2Description: Datasheet; ComponentLink2URL: http://cds.linear.com/docs/en/datasheet/600012fa.pdf; ComponentLink3Description: Package Specification; ComponentLink3URL: http://cds.linear.com/docs/en/packaging/05081610_G_SO8.pdf
footprint LT-MS8-8_N (SOP, 8-Leads, Body 3x3mm, Pitch 0.65mm, IPC Medium Density)
footprint LT-MS8-8_L (SOP, 8-Leads, Body 3x3mm, Pitch 0.65mm, IPC High Density)
footprint LT-MS8-8_M (SOP, 8-Leads, Body 3x3mm, Pitch 0.65mm, IPC Low Density)
pins on every part: 4 V- (power), 8 V+ (power)
part A pins: 1 OUT A (out), 2 IN- A (in), 3 IN+ A (in)
part B pins: 5 IN+ B (in), 6 IN- B (in), 7 OUT B (out)

## LT6001IMS8#TRPBF
designator U?
Dual Channel, Precision Operational Amplifier, RRIO, 0.05 MHz Typical GBW, 0.015 V/us Typical SR, 1.8 to 18 V, 8-Pin SOP (MS8-8), Industrial, Pb-Free, Reel; Linear Technology Part Number: LT6001; Manufacturer: Linear Technology; PartNumber: LT6001IMS8#TRPBF; Channels (#): 2; GBW (MHz) Typical: 0.05; Is (mA) Typical: 0.013; SR (V/us) Typical: 0.015; Vos (mV) Guaranteed: 0.6; Vos (mV) Typical: 0.2; Vs Max (V): 18; Vs Min (V): 1.8; DatasheetVersion: Rev. A; PackageVersion: Rev G; PackageReference: LT-MS8-8; PackageDescription: 8-Lead Plastic Small Outline, Body 3.9 x 4.9 mm, Pitch 1.27 mm; Supplier 1: Digi-Key; Supplier Part Number 1: LT6001IMS8#TRPBF-ND; Packing: Reel; RoHS: Pb-Free; Type: VFB; Mounting Technology: Surface Mount; ComponentLink1Description: Manufacturer URL; ComponentLink1URL: http://www.linear.com/; ComponentLink2Description: Datasheet; ComponentLink2URL: http://cds.linear.com/docs/en/datasheet/600012fa.pdf; ComponentLink3Description: Package Specification; ComponentLink3URL: http://cds.linear.com/docs/en/packaging/05081610_G_SO8.pdf
footprint LT-MS8-8_N (SOP, 8-Leads, Body 3x3mm, Pitch 0.65mm, IPC Medium Density)
footprint LT-MS8-8_L (SOP, 8-Leads, Body 3x3mm, Pitch 0.65mm, IPC High Density)
footprint LT-MS8-8_M (SOP, 8-Leads, Body 3x3mm, Pitch 0.65mm, IPC Low Density)
pins on every part: 4 V- (power), 8 V+ (power)
part A pins: 1 OUT A (out), 2 IN- A (in), 3 IN+ A (in)
part B pins: 5 IN+ B (in), 6 IN- B (in), 7 OUT B (out)

## LT6002CGN
designator U?
Quad Channel, Precision Operational Amplifier, RRIO, 0.05 MHz Typical GBW, 0.015 V/us Typical SR, 1.8 to 18 V, 16-Pin SOP (GN-16), Commercial; Linear Technology Part Number: LT6002; Manufacturer: Linear Technology; PartNumber: LT6002CGN; Channels (#): 4; GBW (MHz) Typical: 0.05; Is (mA) Typical: 0.013; SR (V/us) Typical: 0.015; Vos (mV) Guaranteed: 0.75; Vos (mV) Typical: 0.25; Vs Max (V): 18; Vs Min (V): 1.8; DatasheetVersion: Rev. A; PackageVersion: Rev B; PackageReference: LT-GN-16; PackageDescription: 16-Lead Plastic SSOP, Body 4.9 x 3.9 mm, Pitch 0.635 mm; Type: VFB; Mounting Technology: Surface Mount; ComponentLink1Description: Manufacturer URL; ComponentLink1URL: http://www.linear.com/; ComponentLink2Description: Datasheet; ComponentLink2URL: http://cds.linear.com/docs/en/datasheet/600012fa.pdf; ComponentLink3Description: Package Specification; ComponentLink3URL: http://cds.linear.com/docs/en/packaging/05081641_B_GN16.pdf
footprint LT-GN-16_N (SOP, 16-Leads, Body 4.9x3.9mm, Pitch 0.635mm, IPC Medium Density)
footprint LT-GN-16_L (SOP, 16-Leads, Body 4.9x3.9mm, Pitch 0.635mm, IPC High Density)
footprint LT-GN-16_M (SOP, 16-Leads, Body 4.9x3.9mm, Pitch 0.635mm, IPC Low Density)
part A pins: 1 OUT A (out), 2 IN- A (in), 3 IN+ A (in)
part B pins: 5 IN+ B (in), 6 IN- B (in), 7 OUT B (out)
part C pins: 10 OUT C (out), 11 IN- C (in), 12 IN+ C (in)
part D pins: 14 IN+ D (in), 15 IN- D (in), 16 OUT D (out)
part E pins: 4 V+ (power), 8 NC, 9 NC, 13 V- (power)